# Altium schematic symbol library GANFET.SchLib: 1 symbol
Pins are listed as number, name and electrical type; pins without a type are passive.

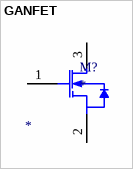
[diagram p0: symbol GANFET]

## GANFET
designator M?
MfrPartNo: *
pins: 1 G, 2 S, 3 D